# Altium schematic symbol library ULWUR.SchLib: 5 symbols
Pins are listed as number, name and electrical type; pins without a type are passive.

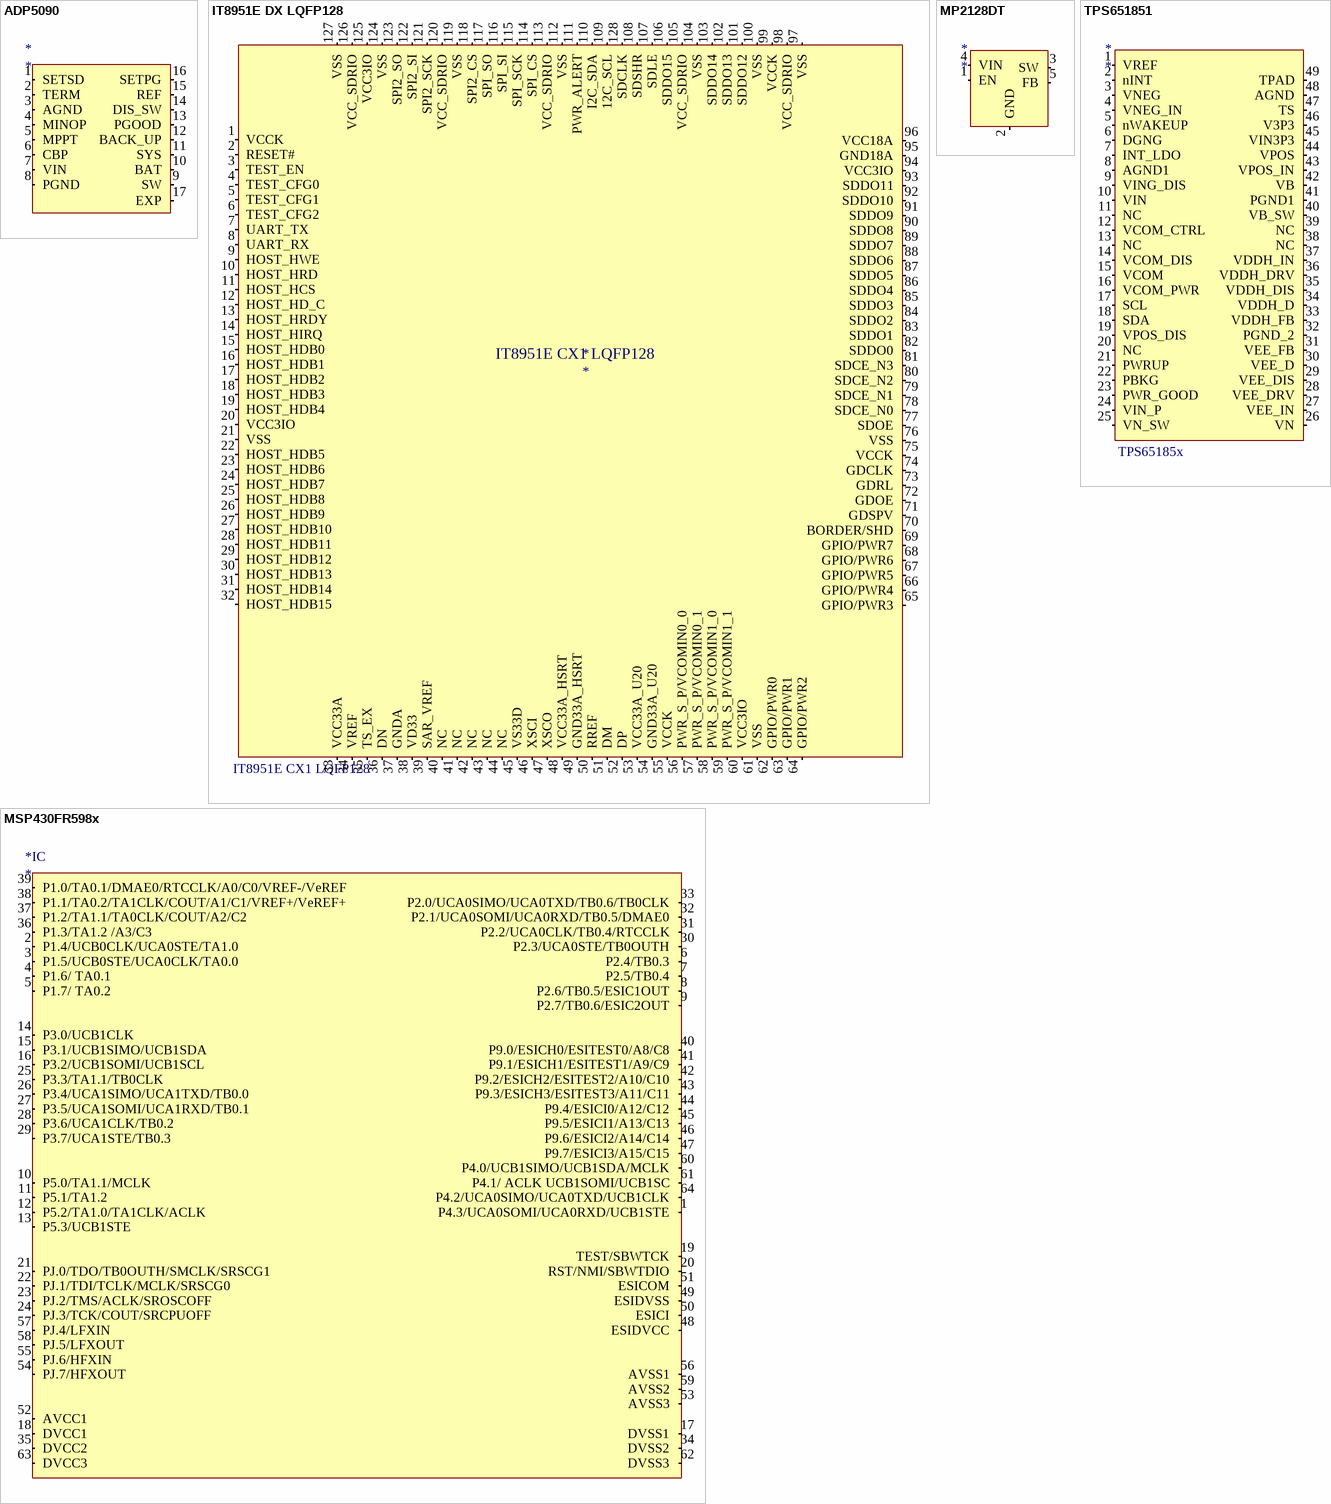
[diagram p0: symbols ADP5090 to TPS651851]

## ADP5090
designator *
Ultralow Power Boost Regulator with / MPPT and Charge Management
pins: 1 SETSD (io), 2 TERM (in), 3 AGND (power), 4 MINOP (in), 5 MPPT (in), 6 CBP (in), 7 VIN (power), 8 PGND (in), 9 SW (in), 10 BAT (in), 11 SYS (in), 12 BACK_UP (in), 13 PGOOD (in), 14 DIS_SW (in), 15 REF (in), 16 SETPG (in), 17 EXP (in)

## IT8951E DX LQFP128
designator *  ITEM: IT8951E CX1 LQFP128
IT8951E DX LQFP128
pins: 1 VCCK (power), 2 RESET# (in), 3 TEST_EN (io), 4 TEST_CFG0 (io), 5 TEST_CFG1 (io), 6 TEST_CFG2 (io), 7 UART_TX (io), 8 UART_RX (io), 9 HOST_HWE (io), 10 HOST_HRD (io), 11 HOST_HCS (io), 12 HOST_HD_C (io), 13 HOST_HRDY (io), 14 HOST_HIRQ (io), 15 HOST_HDB0 (io), 16 HOST_HDB1 (io), 17 HOST_HDB2 (io), 18 HOST_HDB3 (io), 19 HOST_HDB4 (io), 20 VCC3IO (power), 21 VSS (power), 22 HOST_HDB5 (io), 23 HOST_HDB6 (io), 24 HOST_HDB7 (io), 25 HOST_HDB8 (io), 26 HOST_HDB9 (io), 27 HOST_HDB10 (io), 28 HOST_HDB11 (io), 29 HOST_HDB12 (io), 30 HOST_HDB13 (io), 31 HOST_HDB14 (io), 32 HOST_HDB15 (io), 33 VCC33A (power), 34 VREF (in), 35 TS_EX (io), 36 DN (io), 37 GNDA (power), 38 VD33 (power), 39 SAR_VREF (io), 40 NC, 41 NC, 42 NC, 43 NC, 44 NC, 45 VS33D (power), 46 XSCI (io), 47 XSCO (io), 48 VCC33A_HSRT (power), 49 GND33A_HSRT (power), 50 RREF (in), 51 DM (io), 52 DP (io), 53 VCC33A_U20 (power), 54 GND33A_U20 (power), 55 VCCK (power), 56 PWR_S_P/VCOMIN0_0 (io), 57 PWR_S_P/VCOMIN0_1 (io), 58 PWR_S_P/VCOMIN1_0 (io), 59 PWR_S_P/VCOMIN1_1 (io), 60 VCC3IO (io), 61 VSS (power), 62 GPIO/PWR0 (io), 63 GPIO/PWR1 (io), 64 GPIO/PWR2 (io), 65 GPIO/PWR3 (io), 66 GPIO/PWR4 (io), 67 GPIO/PWR5 (io), 68 GPIO/PWR6 (io), 69 GPIO/PWR7 (io), 70 BORDER/SHD (io), 71 GDSPV (io), 72 GDOE (io), 73 GDRL (io), 74 GDCLK (io), 75 VCCK (power), 76 VSS (io), 77 SDOE (io), 78 SDCE_N0 (io), 79 SDCE_N1 (io), 80 SDCE_N2 (io), 81 SDCE_N3 (io), 82 SDDO0 (io), 83 SDDO1 (io), 84 SDDO2 (io), 85 SDDO3 (io), 86 SDDO4 (io), 87 SDDO5 (io), 88 SDDO6 (io), 89 SDDO7 (io), 90 SDDO8 (io), 91 SDDO9 (io), 92 SDDO10 (io), 93 SDDO11 (io), 94 VCC3IO (io), 95 GND18A (io), 96 VCC18A (io), 97 VSS (io), 98 VCC_SDRIO (io), 99 VCCK (io), 100 VSS (io), 101 SDDO12 (io), 102 SDDO13 (io), 103 SDDO14 (io), 104 VSS (io), 105 VCC_SDRIO (io), 106 SDDO15 (io), 107 SDLE (io), 108 SDSHR (io), 109 12C_SCL (io), 110 I2C_SDA (io), 111 PWR_ALERT (io), 112 VSS (io), 113 VCC_SDRIO (io), 114 SPI_CS (io), 115 SPI_SCK (io), 116 SPI_SI (io), 117 SPI_SO (io), 118 SPI2_CS (io), 119 VSS (io), 120 VCC_SDRIO (io), 121 SPI2_SCK (io), 122 SPI2_SI (io), 123 SPI2_SO (io), 124 VSS (io), 125 VCC3IO (io), 126 VCC_SDRIO (io), 127 VSS (io), 128 SDCLK (io)

## MP2128DT
designator *
MP2128DT Step down 2.5-6V to 1.8V 1A
pins: 1 EN (in), 2 GND (power), 3 SW (out), 4 VIN (power), 5 FB (in)

## MSP430FR598x
designator *IC
TI MSP430FR598x 64-Pin Ultra Lowpower FRAM uController
pins: 1 P4.3/UCA0SOMI/UCA0RXD/UCB1STE (io), 2 P1.4/UCB0CLK/UCA0STE/TA1.0 (io), 3 P1.5/UCB0STE/UCA0CLK/TA0.0 (io), 4 P1.6/ TA0.1 (io), 5 P1.7/ TA0.2 (io), 6 P2.4/TB0.3 (io), 7 P2.5/TB0.4 (io), 8 P2.6/TB0.5/ESIC1OUT (io), 9 P2.7/TB0.6/ESIC2OUT (io), 10 P5.0/TA1.1/MCLK (io), 11 P5.1/TA1.2 (io), 12 P5.2/TA1.0/TA1CLK/ACLK (io), 13 P5.3/UCB1STE (io), 14 P3.0/UCB1CLK (io), 15 P3.1/UCB1SIMO/UCB1SDA (io), 16 P3.2/UCB1SOMI/UCB1SCL (io), 17 DVSS1 (in), 18 DVCC1 (in), 19 TEST/SBWTCK (in), 20 RST/NMI/SBWTDIO (in), 21 PJ.0/TDO/TB0OUTH/SMCLK/SRSCG1 (in), 22 PJ.1/TDI/TCLK/MCLK/SRSCG0 (in), 23 PJ.2/TMS/ACLK/SROSCOFF (in), 24 PJ.3/TCK/COUT/SRCPUOFF (in), 25 P3.3/TA1.1/TB0CLK (io), 26 P3.4/UCA1SIMO/UCA1TXD/TB0.0 (io), 27 P3.5/UCA1SOMI/UCA1RXD/TB0.1 (io), 28 P3.6/UCA1CLK/TB0.2 (io), 29 P3.7/UCA1STE/TB0.3 (io), 30 P2.3/UCA0STE/TB0OUTH (io), 31 P2.2/UCA0CLK/TB0.4/RTCCLK (io), 32 P2.1/UCA0SOMI/UCA0RXD/TB0.5/DMAE0 (io), 33 P2.0/UCA0SIMO/UCA0TXD/TB0.6/TB0CLK (io), 34 DVSS2 (in), 35 DVCC2 (in), 36 P1.3/TA1.2 /A3/C3 (io), 37 P1.2/TA1.1/TA0CLK/COUT/A2/C2 (io), 38 P1.1/TA0.2/TA1CLK/COUT/A1/C1/VREF+/VeREF+ (io), 39 P1.0/TA0.1/DMAE0/RTCCLK/A0/C0/VREF-/VeREF (io), 40 P9.0/ESICH0/ESITEST0/A8/C8 (io), 41 P9.1/ESICH1/ESITEST1/A9/C9 (io), 42 P9.2/ESICH2/ESITEST2/A10/C10 (io), 43 P9.3/ESICH3/ESITEST3/A11/C11 (io), 44 P9.4/ESICI0/A12/C12 (io), 45 P9.5/ESICI1/A13/C13 (io), 46 P9.6/ESICI2/A14/C14 (io), 47 P9.7/ESICI3/A15/C15 (io), 48 ESIDVCC (in), 49 ESIDVSS (in), 50 ESICI (in), 51 ESICOM (in), 52 AVCC1 (in), 53 AVSS3 (in), 54 PJ.7/HFXOUT (in), 55 PJ.6/HFXIN (in), 56 AVSS1 (in), 57 PJ.4/LFXIN (in), 58 PJ.5/LFXOUT (in), 59 AVSS2 (in), 60 P4.0/UCB1SIMO/UCB1SDA/MCLK (io), 61 P4.1/ ACLK UCB1SOMI/UCB1SC (io), 62 DVSS3 (in), 63 DVCC3 (in), 64 P4.2/UCA0SIMO/UCA0TXD/UCB1CLK (io)

## TPS651851
designator *  Parameter 1: TPS65185x
TPS651851 TPS65185x PMIC for E Ink® Vizplex™ Enabled Electronic Paper Display /
pins: 1 VREF (in), 2 nINT (in), 3 VNEG (in), 4 VNEG_IN (in), 5 nWAKEUP (in), 6 DGNG (in), 7 INT_LDO (in), 8 AGND1 (in), 9 VING_DIS (in), 10 VIN (in), 11 NC (in), 12 VCOM_CTRL (in), 13 NC (in), 14 VCOM_DIS (in), 15 VCOM (in), 16 VCOM_PWR (in), 17 SCL (in), 18 SDA (in), 19 VPOS_DIS (in), 20 NC (in), 21 PWRUP (in), 22 PBKG (in), 23 PWR_GOOD (in), 24 VIN_P (in), 25 VN_SW (in), 26 VN (in), 27 VEE_IN (in), 28 VEE_DRV (in), 29 VEE_DIS (in), 30 VEE_D (in), 31 VEE_FB (in), 32 PGND_2 (in), 33 VDDH_FB (in), 34 VDDH_D (in), 35 VDDH_DIS (in), 36 VDDH_DRV (in), 37 VDDH_IN (in), 38 NC (in), 39 NC (in), 40 VB_SW (in), 41 PGND1 (in), 42 VB (in), 43 VPOS_IN (in), 44 VPOS (in), 45 VIN3P3 (in), 46 V3P3 (in), 47 TS (in), 48 AGND (in), 49 TPAD (in)